# EAGLE library part IC-PACKAGE_DIL28 (library TLC5940)
Dual In Line
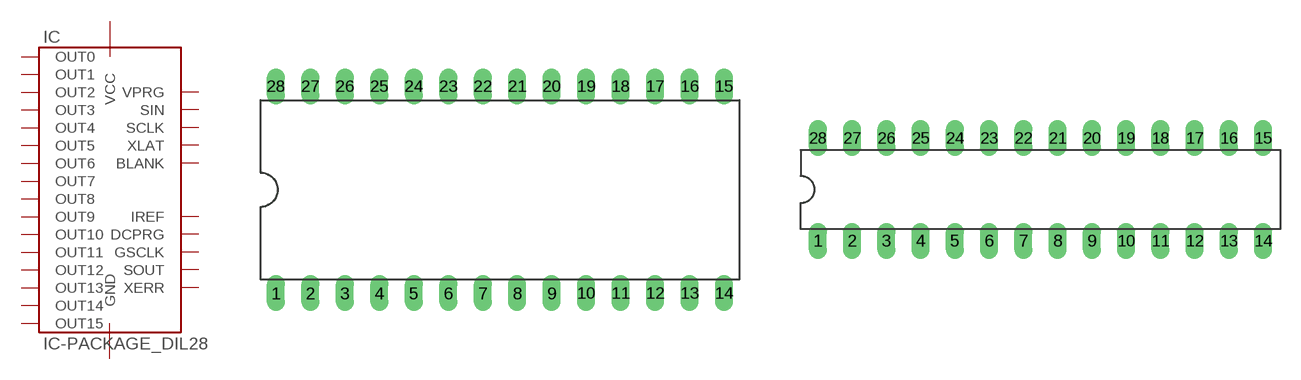
[diagram p0: symbol with the pads of IC-PACKAGE_DIL28-6; footprints IC-PACKAGE_DIL28-6, IC-PACKAGE_DIL28-3]

Designator prefix IC

## IC-PACKAGE_DIL28-2  [IC-PACKAGE_DIL28-6]
1  OUT1  oc
2  OUT2  oc
3  OUT3  oc
4  OUT4  oc
5  OUT5  oc
6  OUT6  oc
7  OUT7  oc
8  OUT8  oc
9  OUT9  oc
10  OUT10  oc
11  OUT11  oc
12  OUT12  oc
13  OUT13  oc
14  OUT14  oc
15  OUT15  oc
16  XERR  oc
17  SOUT  out
18  GSCLK  in
19  DCPRG  in
20  IREF  pas
21  VCC  pwr
22  GND  pwr
23  BLANK  in
24  XLAT  in
25  SCLK  in
26  SIN  in
27  VPRG  in
28  OUT0  oc

## IC-PACKAGE_DIL28-3  [IC-PACKAGE_DIL28-3]
Pads as for IC-PACKAGE_DIL28-6

## IC-PACKAGE_DIL28-4  [IC-PACKAGE_DIL28-4]
Pads as for IC-PACKAGE_DIL28-6

## IC-PACKAGE_DIL28-1  [IC-SSOP28]
1  GND  pwr
2  BLANK  in
3  XLAT  in
4  SCLK  in
5  SIN  in
6  VPRG  in
7  OUT0  oc
8  OUT1  oc
9  OUT2  oc
10  OUT3  oc
11  OUT4  oc
12  OUT5  oc
13  OUT6  oc
14  OUT7  oc
15  OUT8  oc
16  OUT9  oc
17  OUT10  oc
18  OUT11  oc
19  OUT12  oc
20  OUT13  oc
21  OUT14  oc
22  OUT15  oc
23  XERR  oc
24  SOUT  out
25  GSCLK  in
26  DCPRG  in
27  IREF  pas
28  VCC  pwr

## Footprint IC-PACKAGE_DIL28-6 (pad centres in mm)
Dual In Line Package 0.6 inch
drill 0.813 long: 1 -16.51,-7.62; 2 -13.97,-7.62; 3 -11.43,-7.62; 4 -8.89,-7.62; 5 -6.35,-7.62; 6 -3.81,-7.62; 7 -1.27,-7.62; 8 1.27,-7.62; 9 3.81,-7.62; 10 6.35,-7.62; 11 8.89,-7.62; 12 11.43,-7.62; 13 13.97,-7.62; 14 16.51,-7.62; 15 16.51,7.62; 16 13.97,7.62; 17 11.43,7.62; 18 8.89,7.62; 19 6.35,7.62; 20 3.81,7.62; 21 1.27,7.62; 22 -1.27,7.62; 23 -3.81,7.62; 24 -6.35,7.62; 25 -8.89,7.62; 26 -11.43,7.62; 27 -13.97,7.62; 28 -16.51,7.62

## Footprint IC-PACKAGE_DIL28-3 (pad centres in mm)
Dual In Line Package Small
drill 0.813 long: 1 -16.51,-3.81; 2 -13.97,-3.81; 3 -11.43,-3.81; 4 -8.89,-3.81; 5 -6.35,-3.81; 6 -3.81,-3.81; 7 -1.27,-3.81; 8 1.27,-3.81; 9 3.81,-3.81; 10 6.35,-3.81; 11 8.89,-3.81; 12 11.43,-3.81; 13 13.97,-3.81; 14 16.51,-3.81; 15 16.51,3.81; 16 13.97,3.81; 17 11.43,3.81; 18 8.89,3.81; 19 6.35,3.81; 20 3.81,3.81; 21 1.27,3.81; 22 -1.27,3.81; 23 -3.81,3.81; 24 -6.35,3.81; 25 -8.89,3.81; 26 -11.43,3.81; 27 -13.97,3.81; 28 -16.51,3.81

## Footprint IC-PACKAGE_DIL28-4 (pad centres in mm)
Dual In Line Package
drill 0.813 long: 1 -16.51,-5.08; 2 -13.97,-5.08; 3 -11.43,-5.08; 4 -8.89,-5.08; 5 -6.35,-5.08; 6 -3.81,-5.08; 7 -1.27,-5.08; 8 1.27,-5.08; 9 3.81,-5.08; 10 6.35,-5.08; 11 8.89,-5.08; 12 11.43,-5.08; 13 13.97,-5.08; 14 16.51,-5.08; 15 16.51,5.08; 16 13.97,5.08; 17 11.43,5.08; 18 8.89,5.08; 19 6.35,5.08; 20 3.81,5.08; 21 1.27,5.08; 22 -1.27,5.08; 23 -3.81,5.08; 24 -6.35,5.08; 25 -8.89,5.08; 26 -11.43,5.08; 27 -13.97,5.08; 28 -16.51,5.08

## Footprint IC-SSOP28 (pad centres in mm)
Shrink Small Outline Package package type SS
smd 0.4 x 1.5: 1 -4.225,-3.625; 2 -3.575,-3.625; 3 -2.925,-3.625; 4 -2.275,-3.625; 5 -1.625,-3.625; 6 -0.975,-3.625; 7 -0.325,-3.625; 8 0.325,-3.625; 9 0.975,-3.625; 10 1.625,-3.625; 11 2.275,-3.625; 12 2.925,-3.625; 13 3.575,-3.625; 14 4.225,-3.625; 15 4.225,3.625; 16 3.575,3.625; 17 2.925,3.625; 18 2.275,3.625; 19 1.625,3.625; 20 0.975,3.625; 21 0.325,3.625; 22 -0.325,3.625; 23 -0.975,3.625; 24 -1.625,3.625; 25 -2.275,3.625; 26 -2.925,3.625; 27 -3.575,3.625; 28 -4.225,3.625